# Altium footprint library HAB_Lib.PcbLib: 104 footprints (part 3 of 7)
Each footprint in its own frame and in the unit in brackets; x right, y up, seen from the top. Pads: shape width x height; smd on the part's side, far side on the other; paste and mask are expansions set on the pad; w line width, h text height; cw(c..) or ccw(c..) is an arc to the next point about the centre after c.
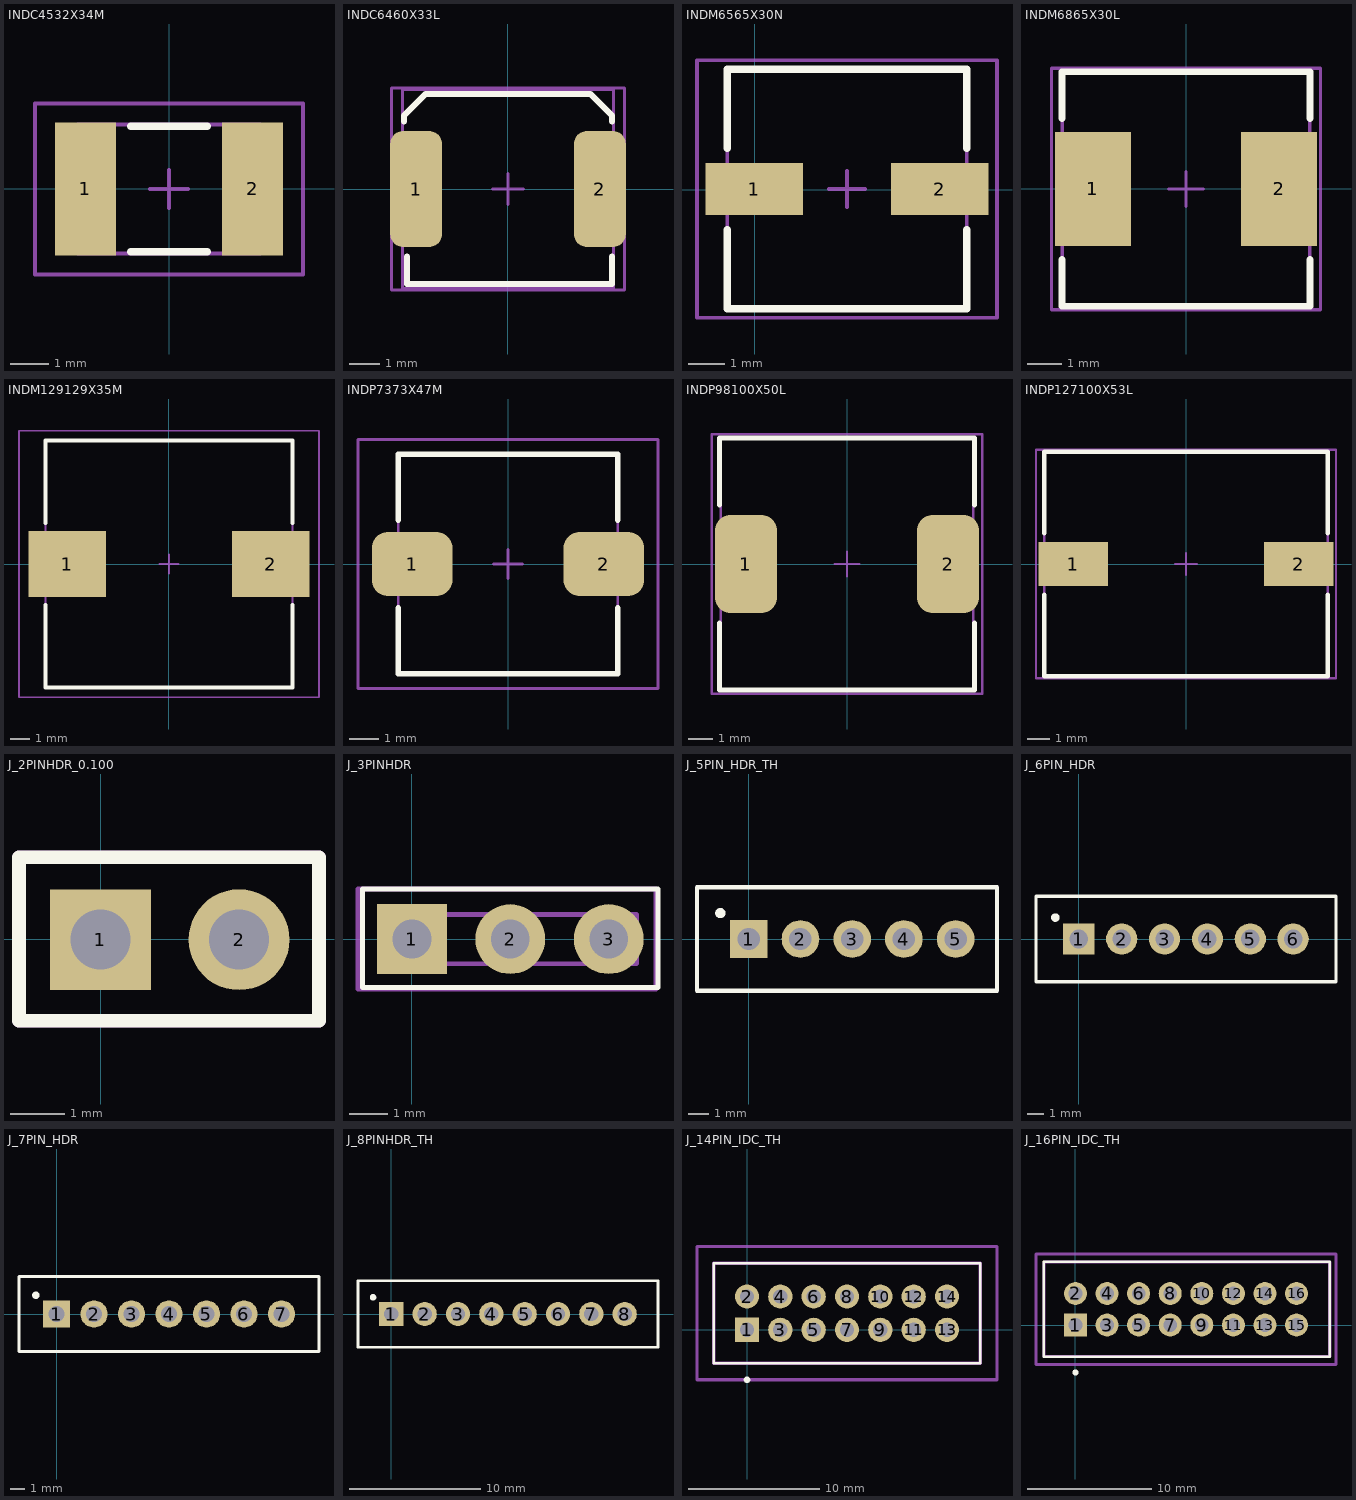
[diagram p2: the footprints below, top view; thin cyan lines are the x and y axes]

## INDC4532X34M [mm] "Chip Inductor, 2-Leads, Body 4.5x3.2mm, IPC Low Density"
height 3.4
pads (2):
  rect 1.6x3.5 smd: 1(-2.2,0) 2(2.2,0)
Top Overlay:
  lines w0.2: -1,-1.65 1,-1.65 ; -1,1.65 1,1.65
Mechanical 13:
  lines w0.1: -2.415,-1.7 2.415,-1.7 2.415,1.7 -2.415,1.7 -2.415,-1.7
Mechanical 15:
  lines w0.1: -0.5,0 0.5,0 ; 0,-0.5 0,0.5 ; -3.525,-2.25 3.525,-2.25 3.525,2.25 -3.525,2.25 -3.525,-2.25
3D body: height 3.4, standoff 0, extent -2.415,-1.7 2.415,1.7

## INDC6460X33L [mm] "Chip Inductor, 2-Leads, Body 6.4x6.0mm, IPC High Density"
height 3.3
pads (2):
  rrect50% 1.7x3.8 smd: 1(-3,0) 2(3,0)
Top Overlay:
  lines w0.2: -3.4,2.2 -3.4,2.4 -2.7,3.1 -1.9,3.1 1.9,3.1 2.7,3.1 3.4,2.4 3.4,2.2 ; -3.3,-2.2 -3.3,-3.1 -1.9,-3.1 1.9,-3.1 3.4,-3.1 3.4,-2.2
Mechanical 13:
  lines w0.1: -3.45,-3.25 -3.45,3.25 3.45,3.25 3.45,-3.25 -3.45,-3.25
Mechanical 15:
  lines w0.1: -0.5,0 0.5,0 ; 0,-0.5 0,0.5 ; -3.8,-3.3 -3.8,3.3 3.8,3.3 3.8,-3.3 -3.8,-3.3
3D body: height 3.3, standoff 0, extent -3.45,-3.25 3.45,3.25

## INDM6565X30N [mm] "Inductor"
height 3.2
pads (2):
  rect 2.65x1.4 smd: 1(-0.025,0.025) 2(5.025,0.025)
Top Overlay:
  lines w0.2: -0.75,-1.075 -0.75,-3.225 5.75,-3.225 5.75,-1.075 ; -0.75,1.125 -0.75,3.275 5.75,3.275 5.75,1.125
Mechanical 13:
  lines w0.1: -0.75,-3.225 -0.75,3.275 5.75,3.275 5.75,-3.225 -0.75,-3.225
Mechanical 15:
  lines w0.1: 2,0.025 3,0.025 ; 2.5,-0.475 2.5,0.525 ; -1.575,-3.475 -1.575,3.525 6.575,3.525 6.575,-3.475 -1.575,-3.475
3D body: height 3, standoff 0, extent -0.75,-3.225 5.75,3.275

## INDM6865X30L [mm] "Molded Inductor, 2-Leads, Body 6.8x6.5mm, IPC High Density"
height 3
pads (2):
  rect 2.2x3.3 smd: 1(-2.7,0) 2(2.7,0)
Top Overlay:
  lines w0.2: -3.6,-2.05 -3.6,-3.4 3.6,-3.4 3.6,-2.05 ; -3.6,2.05 -3.6,3.4 3.6,3.4 3.6,2.05
Mechanical 13:
  lines w0.1: -3.59,-3.36 -3.59,3.36 3.59,3.36 3.59,-3.36 -3.59,-3.36
Mechanical 15:
  lines w0.1: -0.5,0 0.5,0 ; 0,-0.5 0,0.5 ; -3.9,-3.5 -3.9,3.5 3.9,3.5 3.9,-3.5 -3.9,-3.5
3D body: height 3, standoff 0, extent -3.59,-3.36 3.59,3.36

## INDM129129X35M [mm] "Molded Inductor, 2-Leads, Body 12.9x12.9mm, IPC Low Density"
height 3.5
pads (2):
  rect 4.05x3.45 smd: 1(-5.3,0) 2(5.3,0)
Top Overlay:
  lines w0.2: -6.45,-2.125 -6.45,-6.45 6.45,-6.45 6.45,-2.125 ; -6.45,2.125 -6.45,6.45 6.45,6.45 6.45,2.125
Mechanical 13:
  lines w0.1: -6.45,-6.45 6.45,-6.45 6.45,6.45 -6.45,6.45 -6.45,-6.45
Mechanical 15:
  lines w0.1: -0.5,0 0.5,0 ; 0,-0.5 0,0.5 ; -7.825,-6.95 7.825,-6.95 7.825,6.95 -7.825,6.95 -7.825,-6.95
3D body: height 3.5, standoff 0, extent -6.45,-6.45 6.45,6.45

## INDP7373X47M [mm] "Precision Wire Wound Inductor, 2-Leads, Body 7.3x7.3mm, IPC Low Density"
height 4.73
pads (2):
  rrect50% 2.75x2.2 smd: 1(-3.275,0) 2(3.275,0)
Top Overlay:
  lines w0.2: -3.75,-1.5 -3.75,-3.75 3.75,-3.75 3.75,-1.5 ; -3.75,1.5 -3.75,3.75 3.75,3.75 3.75,1.5
Mechanical 13:
  lines w0.1: -3.75,-3.75 -3.75,3.75 3.75,3.75 3.75,-3.75 -3.75,-3.75
Mechanical 15:
  lines w0.1: -0.5,0 0.5,0 ; 0,-0.5 0,0.5 ; -5.125,-4.25 -5.125,4.25 5.125,4.25 5.125,-4.25 -5.125,-4.25
3D body: height 4.73, standoff 0, extent -3.75,-3.75 3.75,3.75

## INDP98100X50L [mm] "Precision Wire Wound Inductor, 2-Leads, Body 9.8x10.0mm, IPC High Density"
height 5
pads (2):
  rrect50% 2.55x4 smd: 1(-4.125,0) 2(4.125,0)
Top Overlay:
  lines w0.2: -5.2,-2.4 -5.2,-5.15 5.2,-5.15 5.2,-2.4 ; -5.2,2.4 -5.2,5.15 5.2,5.15 5.2,2.4
Mechanical 13:
  lines w0.1: -5.15,-5.15 -5.15,5.15 5.15,5.15 5.15,-5.15 -5.15,-5.15
Mechanical 15:
  lines w0.1: -0.5,0 0.5,0 ; 0,-0.5 0,0.5 ; -5.525,-5.3 -5.525,5.3 5.525,5.3 5.525,-5.3 -5.525,-5.3
3D body: height 5, standoff 0, extent -5.15,-5.15 5.15,5.15

## INDP127100X53L [mm] "Precision Wire Wound Inductor, 2-Leads, Body 12.7x10.0mm, IPC High Density"
height 5.3
pads (2):
  rect 3.15x2 smd: 1(-5.125,0) 2(5.125,0)
Top Overlay:
  lines w0.2: -6.45,-1.4 -6.45,-5.1 6.45,-5.1 6.45,-1.4 ; -6.45,1.4 -6.45,5.1 6.45,5.1 6.45,1.4
Mechanical 13:
  lines w0.1: -6.45,-5.1 -6.45,5.1 6.45,5.1 6.45,-5.1 -6.45,-5.1
Mechanical 15:
  lines w0.1: -0.5,0 0.5,0 ; 0,-0.5 0,0.5 ; -6.825,-5.2 -6.825,5.2 6.825,5.2 6.825,-5.2 -6.825,-5.2
3D body: height 5.3, standoff 0, extent -6.45,-5.1 6.45,5.1

## J_2PINHDR_0.100 [mm] "Std 2 Pin Male Hdr"
pads (2):
  rect 1.85x1.85 hole 1.1: 1(-0.006,-0.013)
  round 1.85 hole 1.1: 2(2.534,-0.013)
Top Overlay:
  lines w0.254: -1.5,-1.5 -1.5,1.5 4,1.5 4,-1.5 -1.5,-1.5
Mechanical 13:
  lines w0.254: -1.5,-1.5 -1.5,1.5 4,1.5 4,-1.5 -1.5,-1.5
Mechanical 15:
  lines w0.254: -1.5,-1.5 -1.5,1.5 4,1.5 4,-1.5 -1.5,-1.5

## J_3PINHDR [mm] "CONN HEADER 50POS .100\" SGL GOLD"
height 5.84
pads (3):
  rect 1.8x1.8 hole 1: 1(0,0)
  round 1.8 hole 1: 2(2.54,0) 3(5.08,0)
Top Overlay:
  lines w0.127: 0.635,-0.762 0.635,0.762 ; -1.27,-1.245 6.35,-1.245 6.35,1.295 -1.27,1.295 -1.27,-1.245
Mechanical 13:
  lines w0.127: 0.635,-0.635 0.635,0.635 ; -0.635,-0.635 -0.635,0.635 5.8,0.635 5.8,-0.635 -0.635,-0.635
Mechanical 15:
  lines w0.025: 2.191,0 2.699,0 ; 2.54,0 2.54,0.762
  lines w0.127: -1.39,-1.29 -1.39,1.29 6.3,1.29 6.3,-1.29 -1.39,-1.29
3D body: height 5.84, standoff 0, extent -0.699,-0.699 5.864,0.699

## J_5PIN_HDR_TH [mm]
height 1
pads (5):
  rect 1.85x1.85 hole 1.1: 1(0,0)
  round 1.85 hole 1.1: 2(2.54,0) 3(5.08,0) 4(7.62,0) 5(10.16,0)
Top Overlay:
  circle w0.25: c-1.395,1.27 r0.125
  lines w0.2: -2.54,-2.54 12.192,-2.54 12.192,2.54 -2.54,2.54 -2.54,-2.54

## J_6PIN_HDR [mm]
height 10
pads (6):
  rect 1.85x1.85 hole 1.1: 1(0,0)
  round 1.85 hole 1.1: 2(2.54,0) 3(5.08,0) 4(7.62,0) 5(10.16,0) 6(12.7,0)
Top Overlay:
  circle w0.25: c-1.395,1.27 r0.125
  lines w0.2: -2.54,-2.54 15.24,-2.54 15.24,2.54 -2.54,2.54 -2.54,-2.54

## J_7PIN_HDR [mm]
height 10
pads (7):
  rect 1.85x1.85 hole 1.1: 1(0,0)
  round 1.85 hole 1.1: 2(2.54,0) 3(5.08,0) 4(7.62,0) 5(10.16,0) 6(12.7,0) 7(15.24,0)
Top Overlay:
  circle w0.25: c-1.395,1.27 r0.125
  lines w0.2: -2.54,-2.54 -2.54,2.54 17.78,2.54 17.78,-2.54 -2.54,-2.54

## J_8PINHDR_TH [mm] "100 mil Header"
pads (8):
  rect 1.85x1.85 hole 1.1: 1(0,0)
  round 1.85 hole 1.1: 2(2.54,0) 3(5.08,0) 4(7.62,0) 5(10.16,0) 6(12.7,0) 7(15.24,0) 8(17.78,0)
Top Overlay:
  circle w0.25: c-1.395,1.27 r0.125
  lines w0.2: -2.54,-2.54 -2.54,2.54 20.32,2.54 20.32,-2.54 -2.54,-2.54

## J_14PIN_IDC_TH [mm]
height 0.127
pads (14):
  rect 1.85x1.85 hole 1.1: 1(0,0)
  round 1.85 hole 1.1: 2(0,2.54) 3(2.54,0) 4(2.54,2.54) 5(5.08,0) 6(5.08,2.54) 7(7.62,0) 8(7.62,2.54) 9(10.16,0) 10(10.16,2.54) 11(12.7,0) 12(12.7,2.54) 13(15.24,0) 14(15.24,2.54)
Top Overlay:
  circle w0.25: c0,-3.81 r0.125
  lines w0.2: -2.54,-2.54 -2.54,5.08 17.78,5.08 17.78,-2.54 -2.54,-2.54
Mechanical 13:
  lines w0.254: -2.54,-2.54 17.78,-2.54 17.78,5.08 -2.54,5.08 -2.54,-2.54
Mechanical 15:
  lines w0.254: -3.81,-3.81 19.05,-3.81 19.05,6.35 -3.81,6.35 -3.81,-3.81

## J_16PIN_IDC_TH [mm]
height 1.016
pads (16):
  rect 1.85x1.85 hole 1.1: 1(0,0)
  round 1.85 hole 1.1: 2(0,2.54) 3(2.54,0) 4(2.54,2.54) 5(5.08,0) 6(5.08,2.54) 7(7.62,0) 8(7.62,2.54) 9(10.16,0) 10(10.16,2.54) 11(12.7,0) 12(12.7,2.54) 13(15.24,0) 14(15.24,2.54) 15(17.78,0) 16(17.78,2.54)
Top Overlay:
  circle w0.25: c0,-3.81 r0.125
  lines w0.2: -2.54,-2.54 -2.54,5.08 20.447,5.08 20.447,-2.54 -2.54,-2.54
Mechanical 13:
  lines w0.254: -2.54,-2.54 20.447,-2.54 20.447,5.08 -2.54,5.08 -2.54,-2.54
Mechanical 15:
  lines w0.254: -3.175,-3.175 20.955,-3.175 20.955,5.715 -3.175,5.715 -3.175,-3.175